# Altium schematic symbol library st-microelectronics.SCHLIB: 1 symbol
Pins are listed as number, name and electrical type; pins without a type are passive.

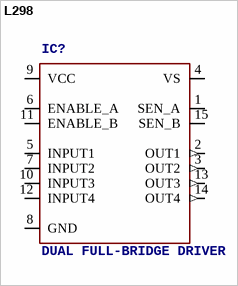
[diagram p0: symbol L298]

## L298
designator IC?, comment DUAL FULL-BRIDGE DRIVER
MPN: L298N; OC_FARNELL: 1589425; OC_NEWARK: 32M1527
footprint MULTIWATT-15
pins: 1 SEN_A, 2 OUT1 (out), 3 OUT2 (out), 4 VS (power), 5 INPUT1, 6 ENABLE_A, 7 INPUT2, 8 GND (power), 9 VCC (power), 10 INPUT3, 11 ENABLE_B, 12 INPUT4, 13 OUT3 (out), 14 OUT4 (out), 15 SEN_B